# EAGLE library part DSPIC33FJ*GP706A (library Microchip)
dsPIC33 High Performance 16-Bit Digital Signal Controller
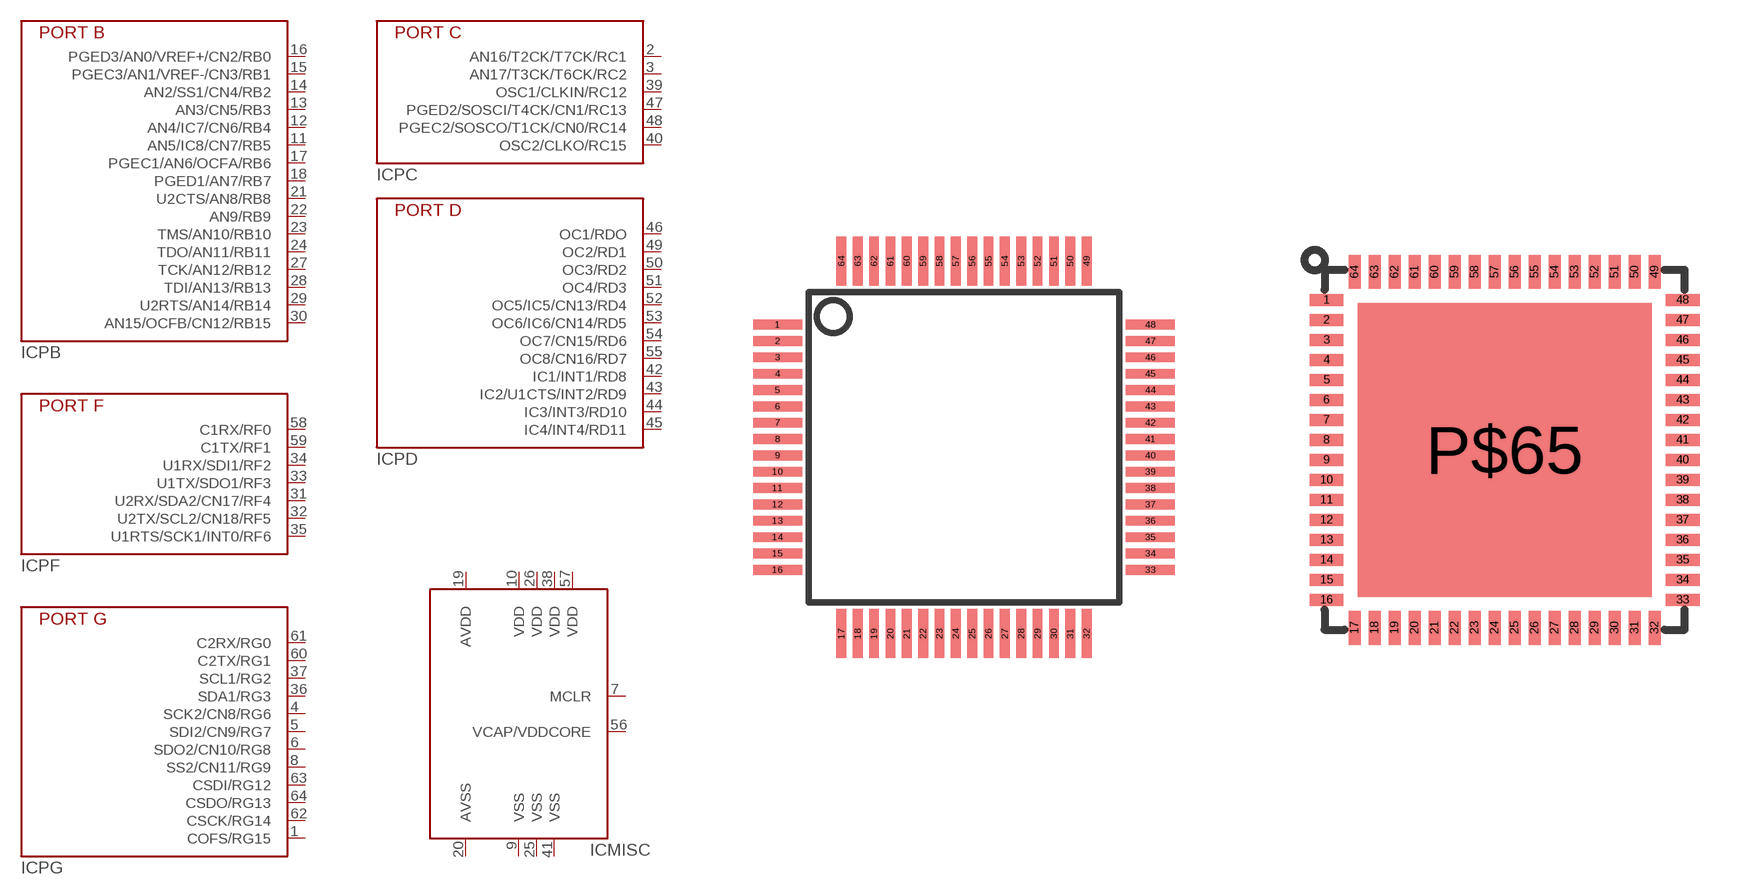
[diagram p30: symbol with the pads of TQ64-PT; footprints TQ64-PT, QFN64-MR]

Designator prefix IC; gates PB=DSPIC33FJXXXGP706A-PB PC=DSPIC33FJXXXGP706A-PC PD=DSPIC33FJXXXGP706A-PD PF=DSPIC33FJXXXGP706A-PF PG=DSPIC33FJXXXGP706A-PG MISC=DSPIC33FJXXXGP706A-MISC

## DSPIC33FJGP706A-PT  [TQ64-PT]
1  PG:COFS/RG15
2  PC:AN16/T2CK/T7CK/RC1
3  PC:AN17/T3CK/T6CK/RC2
4  PG:SCK2/CN8/RG6
5  PG:SDI2/CN9/RG7
6  PG:SDO2/CN10/RG8
7  MISC:MCLR
8  PG:SS2/CN11/RG9
9  MISC:VSS
10  MISC:VDD
11  PB:AN5/IC8/CN7/RB5
12  PB:AN4/IC7/CN6/RB4
13  PB:AN3/CN5/RB3
14  PB:AN2/SS1/CN4/RB2
15  PB:PGEC3/AN1/VREF-/CN3/RB1
16  PB:PGED3/AN0/VREF+/CN2/RB0
17  PB:PGEC1/AN6/OCFA/RB6
18  PB:PGED1/AN7/RB7
19  MISC:AVDD
20  MISC:AVSS
21  PB:U2CTS/AN8/RB8
22  PB:AN9/RB9
23  PB:TMS/AN10/RB10
24  PB:TDO/AN11/RB11
25  MISC:VSS
26  MISC:VDD
27  PB:TCK/AN12/RB12
28  PB:TDI/AN13/RB13
29  PB:U2RTS/AN14/RB14
30  PB:AN15/OCFB/CN12/RB15
31  PF:U2RX/SDA2/CN17/RF4
32  PF:U2TX/SCL2/CN18/RF5
33  PF:U1TX/SDO1/RF3
34  PF:U1RX/SDI1/RF2
35  PF:U1RTS/SCK1/INT0/RF6
36  PG:SDA1/RG3
37  PG:SCL1/RG2
38  MISC:VDD
39  PC:OSC1/CLKIN/RC12
40  PC:OSC2/CLKO/RC15
41  MISC:VSS
42  PD:IC1/INT1/RD8
43  PD:IC2/U1CTS/INT2/RD9
44  PD:IC3/INT3/RD10
45  PD:IC4/INT4/RD11
46  PD:OC1/RDO
47  PC:PGED2/SOSCI/T4CK/CN1/RC13
48  PC:PGEC2/SOSCO/T1CK/CN0/RC14
49  PD:OC2/RD1
50  PD:OC3/RD2
51  PD:OC4/RD3
52  PD:OC5/IC5/CN13/RD4
53  PD:OC6/IC6/CN14/RD5
54  PD:OC7/CN15/RD6
55  PD:OC8/CN16/RD7
56  MISC:VCAP/VDDCORE
57  MISC:VDD
58  PF:C1RX/RF0
59  PF:C1TX/RF1
60  PG:C2TX/RG1
61  PG:C2RX/RG0
62  PG:CSCK/RG14
63  PG:CSDI/RG12
64  PG:CSDO/RG13

## DSPIC33FJGP706A-MR  [QFN64-MR]
Pads as for TQ64-PT

## Footprint TQ64-PT (pad centres in mm)
TQFP 64 pin, 0.5mm pitch, 16x16, Microchip PT package
smd 1.5 x 0.3: 1 -5.7,3.75; 2 -5.7,3.25; 3 -5.7,2.75; 4 -5.7,2.25; 5 -5.7,1.75; 6 -5.7,1.25; 7 -5.7,0.75; 8 -5.7,0.25; 9 -5.7,-0.25; 10 -5.7,-0.75; 11 -5.7,-1.25; 12 -5.7,-1.75; 13 -5.7,-2.25; 14 -5.7,-2.75; 15 -5.7,-3.25; 16 -5.7,-3.75; 33 5.7,-3.75; 34 5.7,-3.25; 35 5.7,-2.75; 36 5.7,-2.25; 37 5.7,-1.75; 38 5.7,-1.25; 39 5.7,-0.75; 40 5.7,-0.25; 41 5.7,0.25; 42 5.7,0.75; 43 5.7,1.25; 44 5.7,1.75; 45 5.7,2.25; 46 5.7,2.75; 47 5.7,3.25; 48 5.7,3.75
smd 0.3 x 1.5: 17 -3.75,-5.7; 18 -3.25,-5.7; 19 -2.75,-5.7; 20 -2.25,-5.7; 21 -1.75,-5.7; 22 -1.25,-5.7; 23 -0.75,-5.7; 24 -0.25,-5.7; 25 0.25,-5.7; 26 0.75,-5.7; 27 1.25,-5.7; 28 1.75,-5.7; 29 2.25,-5.7; 30 2.75,-5.7; 31 3.25,-5.7; 32 3.75,-5.7; 49 3.75,5.7; 50 3.25,5.7; 51 2.75,5.7; 52 2.25,5.7; 53 1.75,5.7; 54 1.25,5.7; 55 0.75,5.7; 56 0.25,5.7; 57 -0.25,5.7; 58 -0.75,5.7; 59 -1.25,5.7; 60 -1.75,5.7; 61 -2.25,5.7; 62 -2.75,5.7; 63 -3.25,5.7; 64 -3.75,5.7

## Footprint QFN64-MR (pad centres in mm)
64-Lead Plastic Quad Flat, No Lead Package (MR) - 9x9x0.0mm Body (QFN)
smd 0.85 x 0.3: 1 -4.45,3.75; 2 -4.45,3.25; 3 -4.45,2.75; 4 -4.45,2.25; 5 -4.45,1.75; 6 -4.45,1.25; 7 -4.45,0.75; 8 -4.45,0.25; 9 -4.45,-0.25; 10 -4.45,-0.75; 11 -4.45,-1.25; 12 -4.45,-1.75; 13 -4.45,-2.25; 14 -4.45,-2.75; 15 -4.45,-3.25; 16 -4.45,-3.75; 33 4.45,-3.75; 34 4.45,-3.25; 35 4.45,-2.75; 36 4.45,-2.25; 37 4.45,-1.75; 38 4.45,-1.25; 39 4.45,-0.75; 40 4.45,-0.25; 41 4.45,0.25; 42 4.45,0.75; 43 4.45,1.25; 44 4.45,1.75; 45 4.45,2.25; 46 4.45,2.75; 47 4.45,3.25; 48 4.45,3.75
smd 0.3 x 0.85: 17 -3.75,-4.45; 18 -3.25,-4.45; 19 -2.75,-4.45; 20 -2.25,-4.45; 21 -1.75,-4.45; 22 -1.25,-4.45; 23 -0.75,-4.45; 24 -0.25,-4.45; 25 0.25,-4.45; 26 0.75,-4.45; 27 1.25,-4.45; 28 1.75,-4.45; 29 2.25,-4.45; 30 2.75,-4.45; 31 3.25,-4.45; 32 3.75,-4.45; 49 3.75,4.45; 50 3.25,4.45; 51 2.75,4.45; 52 2.25,4.45; 53 1.75,4.45; 54 1.25,4.45; 55 0.75,4.45; 56 0.25,4.45; 57 -0.25,4.45; 58 -0.75,4.45; 59 -1.25,4.45; 60 -1.75,4.45; 61 -2.25,4.45; 62 -2.75,4.45; 63 -3.25,4.45; 64 -3.75,4.45
smd 7.35 x 7.35: P$65 0,0